# Altium footprint library MPX_____.PcbLib: 19 footprints (part 2 of 2)
Each footprint in its own frame and in the unit in brackets; x right, y up, seen from the top. Pads: shape width x height; smd on the part's side, far side on the other; paste and mask are expansions set on the pad; w line width, h text height; cw(c..) or ccw(c..) is an arc to the next point about the centre after c.
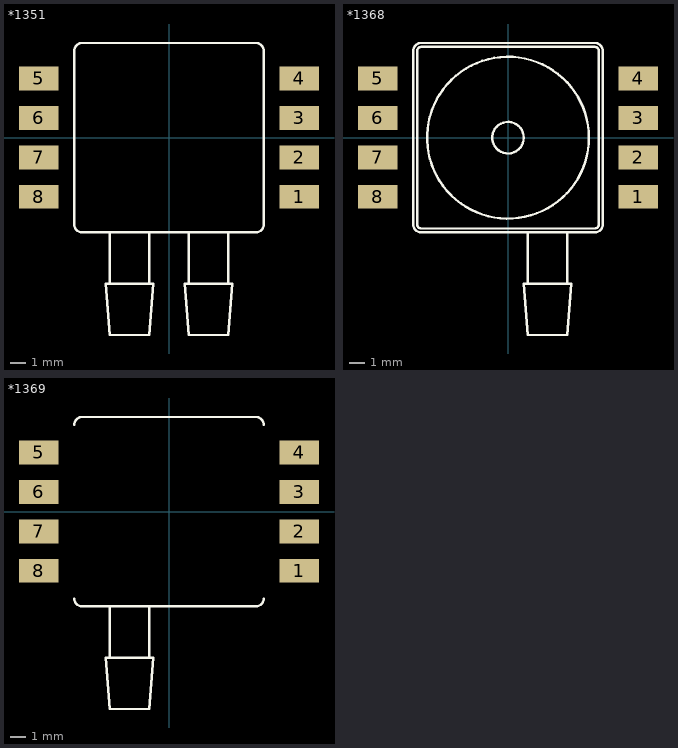
[diagram p1: the footprints below, top view; thin cyan lines are the x and y axes]

## *1351 [mil]
pads (8):
  rect 100x60 smd: 1(330,-150) 2(330,-50) 3(330,50) 4(330,150) 5(-330,150) 6(-330,50) 7(-330,-50) 8(-330,-150)
Top Overlay:
  lines w6: -150,-370 -50,-370 ; -150,-370 -150,-240 ; -150,-370 -160,-370 -150,-500 -50,-500 -40,-370 -50,-370 ; -150,-240 -220,-240 cw(c-220,-220) -240,-220 -240,220 cw(c-220,220) -220,240 220,240 cw(c220,220) 240,220 240,-220 cw(c220,-220) 220,-240 150,-240 ; -150,-240 -50,-240 ; -50,-370 -50,-240 ; -50,-240 50,-240 ; 50,-370 50,-240 ; 50,-370 150,-370 ; 50,-370 40,-370 50,-500 150,-500 160,-370 150,-370 ; 50,-240 150,-240 ; 150,-370 150,-240

## *1368 [mil]
pads (8):
  rect 100x60 smd: 1(330,-150) 2(330,-50) 3(330,50) 4(330,150) 5(-330,150) 6(-330,50) 7(-330,-50) 8(-330,-150)
Top Overlay:
  circle w6: c0,0 r205
  circle w6: c0,0 r40
  lines w6: 50,-370 50,-240 ; 50,-370 150,-370 ; 50,-370 40,-370 50,-500 150,-500 160,-370 150,-370 ; 50,-240 -220,-240 cw(c-220,-220) -240,-220 -240,220 cw(c-220,220) -220,240 220,240 cw(c220,220) 240,220 240,-220 cw(c220,-220) 220,-240 150,-240 ; 50,-240 150,-240 ; 150,-370 150,-240 ; -230,-220 ccw(c-220,-220) -220,-230 220,-230 ccw(c220,-220) 230,-220 230,220 ccw(c220,220) 220,230 -220,230 ccw(c-220,220) -230,220 -230,-220

## *1369 [mil]
pads (8):
  rect 100x60 smd: 1(330,-150) 2(330,-50) 3(330,50) 4(330,150) 5(-330,150) 6(-330,50) 7(-330,-50) 8(-330,-150)
Top Overlay:
  lines w6: -240,-220 ccw(c-220,-220) -220,-240 -150,-240 ; -240,220 cw(c-220,220) -220,240 220,240 cw(c220,220) 240,220 ; 240,-220 cw(c220,-220) 220,-240 150,-240 50,-240 -50,-240 ; -150,-370 -50,-370 ; -150,-370 -150,-240 ; -150,-370 -160,-370 -150,-500 -50,-500 -40,-370 -50,-370 ; -150,-240 -50,-240 ; -50,-370 -50,-240